# Altium schematic symbol library QNPN.Schlib: 1 symbol
Pins are listed as number, name and electrical type; pins without a type are passive.

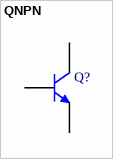
[diagram p0: symbol QNPN]

## QNPN
designator Q?
NPN Bipolar Transistor
pins: 1 C, 2 B, 3 E